# Altium schematic symbol library TPS22918DBVR.SchLib: 1 symbol
Pins are listed as number, name and electrical type; pins without a type are passive.

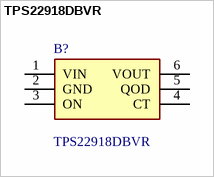
[diagram p0: symbol TPS22918DBVR]

## TPS22918DBVR
designator B?
5.5V, 2A, 52m load switch with adjustable rise time and adjustable quick output discharge; Manufacturer_Name: Texas Instruments; Geometry.Height: 1.45mm; Manufacturer_Part_Number: TPS22918DBVR; Mouser Part Number: 595-TPS22918DBVR; Mouser Price/Stock: https://www.mouser.co.uk/ProductDetail/Texas-Instruments/TPS22918DBVR?qs=f4l5qYp%2Fy%252B5F7w5ZAgmi7A%3D%3D; Arrow Part Number: TPS22918DBVR; Arrow Price/Stock: https://www.arrow.com/en/products/tps22918dbvr/texas-instruments?utm_currency=USD&region=nac; Datasheet Link: http://www.ti.com/lit/gpn/TPS22918
footprint SOT95P280X145-6N
pins: 1 VIN, 2 GND, 3 ON, 4 CT, 5 QOD, 6 VOUT